# Altium footprint library BitMainTech_V1.3.PcbLib: 33 footprints (part 2 of 3)
Each footprint in its own frame and in the unit in brackets; x right, y up, seen from the top. Pads: shape width x height; smd on the part's side, far side on the other; paste and mask are expansions set on the pad; w line width, h text height; cw(c..) or ccw(c..) is an arc to the next point about the centre after c.
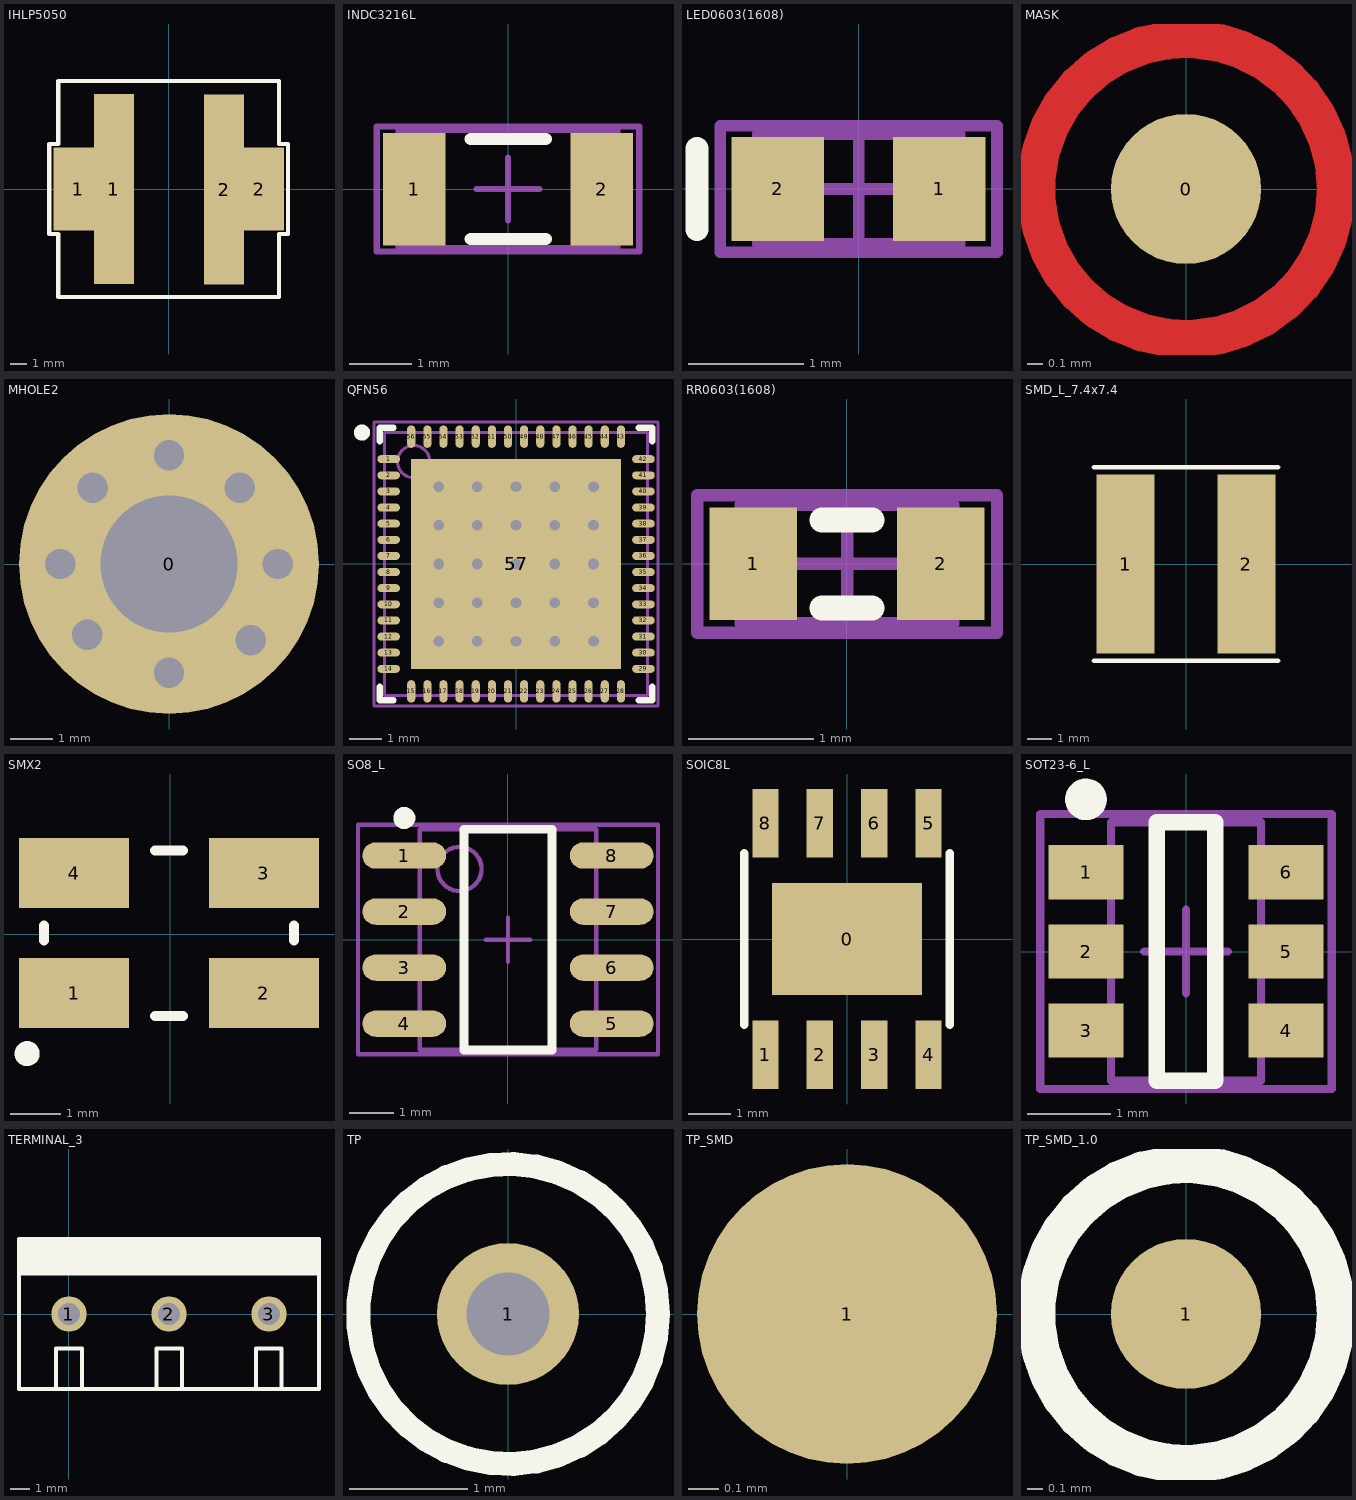
[diagram p1: the footprints below, top view; thin cyan lines are the x and y axes]

## IHLP5050 [mm]
height 18.15
pads (4):
  rect 2.945x4.95 smd: 1(-5.407,0) 2(5.407,0)
  rect 2.388x11.328 smd: 1(-3.28,0) 2(3.32,-0.03)
Top Overlay:
  lines w0.254: -7.137,-2.688 -6.6,-2.688 -6.6,-3.225 -6.6,-6.45 6.6,-6.45 6.6,-3.225 6.6,-2.688 7.137,-2.688 7.137,2.688 6.6,2.688 6.6,3.225 6.6,6.45 -6.6,6.45 -6.6,3.225 -6.6,2.688 -7.137,2.688 -7.137,-2.688
Top Paste:
  rectangle: 2.134,-5.664 4.521,5.664
  rectangle: -4.521,-5.664 -2.134,5.664
Top Solder:
  rectangle: 2.134,-5.664 4.521,5.664
  rectangle: -4.521,-5.664 -2.134,5.664
3D body: height 6.5, standoff 0, extent -6.6,-6.449 6.6,6.449

## INDC3216L [mm] "Chip Inductor, Body 3.2x1.6mm, IPC High Density"
height 1.9
pads (2):
  rect 1x1.8 smd: 1(-1.5,0) 2(1.5,0)
Top Overlay:
  lines w0.2: -0.6,-0.8 0.6,-0.8 ; -0.6,0.8 0.6,0.8
Mechanical 13:
  lines w0.1: -1.75,-0.95 1.75,-0.95 1.75,0.95 -1.75,0.95 -1.75,-0.95
Mechanical 15:
  lines w0.1: -0.5,0 0.5,0 ; 0,-0.5 0,0.5 ; -2.1,-1 2.1,-1 2.1,1 -2.1,1 -2.1,-1
3D body: height 1.9, standoff 0, extent -1.75,-0.95 1.75,0.95

## LED0603(1608) [mm] "Chip LED, Body 1.6x0.8mm, IPC High Density"
height 18.15
pads (2):
  rect 0.8x0.9 smd: 1(0.7,0) 2(-0.7,0)
Top Overlay:
  lines w0.2: -1.4,-0.35 -1.4,0.35
Mechanical 13:
  lines w0.1: -0.875,-0.475 0.875,-0.475 0.875,0.475 -0.875,0.475 -0.875,-0.475
Mechanical 15:
  lines w0.1: -0.475,0 0.475,0 ; 0,-0.475 0,0.475 ; -1.2,-0.55 1.2,-0.55 1.2,0.55 -1.2,0.55 -1.2,-0.55
3D body: height 0.85, standoff 0, extent -0.875,-0.475 0.875,0.475

## MASK [mm] "SMD MASK 1mm"
height 18.15
pads (1):
  round 1 smd: 0(0,0)
Top Layer:
  circle w0.254: c0,0 r1
Top Paste:
  circle w1.5: c0,0 r0.508
  circle w0.254: c0,0 r0.508
Top Solder:
  circle w1: c0,0 r0.762

## MHOLE2 [mm]
height 0.9
pads (1):
  round 7 hole 3.2 unplated: 0(0,0)
via 1.905,-1.778 diameter 1.27 hole 0.711
via 1.651,1.778 diameter 1.27 hole 0.711
via -1.778,1.778 diameter 1.27 hole 0.711
via -1.905,-1.651 diameter 1.27 hole 0.711
via 0,-2.54 diameter 1.27 hole 0.711
via -2.54,0 diameter 1.27 hole 0.711
via 2.54,0 diameter 1.27 hole 0.711
via 0,2.54 diameter 1.27 hole 0.711

## QFN56 [mm]
height 18.15
pads (58):
  oval 0.7x0.25 smd: 1(-3.95,3.25) 2(-3.95,2.75) 3(-3.95,2.25) 4(-3.95,1.75) 5(-3.95,1.25) 6(-3.95,0.75) 7(-3.95,0.25) 8(-3.95,-0.25) 9(-3.95,-0.75) 10(-3.95,-1.25) 11(-3.95,-1.75) 12(-3.95,-2.25) 13(-3.95,-2.75) 14(-3.95,-3.25) 29(3.95,-3.25) 30(3.95,-2.75) 31(3.95,-2.25) 32(3.95,-1.75) 33(3.95,-1.25) 34(3.95,-0.75) 35(3.95,-0.25) 36(3.95,0.25) 37(3.95,0.75) 38(3.95,1.25) 39(3.95,1.75) 40(3.95,2.25) 41(3.95,2.75) 42(3.95,3.25)
  oval 0.25x0.7 smd: 15(-3.25,-3.95) 16(-2.75,-3.95) 17(-2.25,-3.95) 18(-1.75,-3.95) 19(-1.25,-3.95) 20(-0.75,-3.95) 21(-0.25,-3.95) 22(0.25,-3.95) 23(0.75,-3.95) 24(1.25,-3.95) 25(1.75,-3.95) 26(2.25,-3.95) 27(2.75,-3.95) 28(3.25,-3.95) 43(3.25,3.95) 44(2.75,3.95) 45(2.25,3.95) 46(1.75,3.95) 47(1.25,3.95) 48(0.75,3.95) 49(0.25,3.95) 50(-0.25,3.95) 51(-0.75,3.95) 52(-1.25,3.95) 53(-1.75,3.95) 54(-2.25,3.95) 55(-2.75,3.95) 56(-3.25,3.95)
  rect 6.5x6.5 smd: 57(0,0)
  rect 6.5x6.5 smd far side: 57(0,0)
via -2.4,2.4 diameter 0.66 hole 0.33
via -1.2,2.4 diameter 0.66 hole 0.33
via 0,2.4 diameter 0.66 hole 0.33
via 1.2,2.4 diameter 0.66 hole 0.33
via 2.4,2.4 diameter 0.66 hole 0.33
via -2.4,1.2 diameter 0.66 hole 0.33
via -1.2,1.2 diameter 0.66 hole 0.33
via 0,1.2 diameter 0.66 hole 0.33
via 1.2,1.2 diameter 0.66 hole 0.33
via 2.4,1.2 diameter 0.66 hole 0.33
via -2.4,0 diameter 0.66 hole 0.33
via -1.2,0 diameter 0.66 hole 0.33
via 0,0 diameter 0.66 hole 0.33
via 1.2,0 diameter 0.66 hole 0.33
via 2.4,0 diameter 0.66 hole 0.33
via -2.4,-1.2 diameter 0.66 hole 0.33
via -1.2,-1.2 diameter 0.66 hole 0.33
via 0,-1.2 diameter 0.66 hole 0.33
via 1.2,-1.2 diameter 0.66 hole 0.33
via 2.4,-1.2 diameter 0.66 hole 0.33
via -2.4,-2.4 diameter 0.66 hole 0.33
via -1.2,-2.4 diameter 0.66 hole 0.33
via 0,-2.4 diameter 0.66 hole 0.33
via 1.2,-2.4 diameter 0.66 hole 0.33
via 2.4,-2.4 diameter 0.66 hole 0.33
Top Overlay:
  circle w0.25: c-4.775,4.075 r0.125
  lines w0.2: -4.225,-3.8 -4.225,-4.225 -3.8,-4.225 ; -4.225,3.8 -4.225,4.225 -3.8,4.225 ; 3.8,-4.225 4.225,-4.225 4.225,-3.8 ; 3.8,4.225 4.225,4.225 4.225,3.8
Mechanical 13:
  circle w0.1: c-3.175,3.175 r0.5
  lines w0.1: -4.075,-4.075 -4.075,4.075 4.075,4.075 4.075,-4.075 -4.075,-4.075
Mechanical 15:
  lines w0.1: -0.5,0 0.5,0 ; 0,-0.5 0,0.5 ; -4.4,-4.4 -4.4,4.4 4.4,4.4 4.4,-4.4 -4.4,-4.4
3D body: height 0.9, standoff 0, extent -4.075,-4.075 4.075,4.075

## RR0603(1608) [mm] "Chip Resistor, Body 1.6x0.8mm, IPC High Density"
height 0.6
pads (2):
  rect 0.7x0.9 smd: 1(-0.75,0) 2(0.75,0)
Top Overlay:
  lines w0.2: -0.2,-0.35 0.2,-0.35 ; -0.2,0.35 0.2,0.35
Mechanical 13:
  lines w0.1: -0.85,-0.475 -0.85,0.475 0.85,0.475 0.85,-0.475 -0.85,-0.475
Mechanical 15:
  lines w0.1: -0.475,0 0.475,0 ; 0,-0.475 0,0.475 ; -1.2,-0.55 -1.2,0.55 1.2,0.55 1.2,-0.55 -1.2,-0.55
3D body: height 0.6, standoff 0, extent -0.85,-0.475 0.85,0.475

## SMD_L_7.4x7.4 [mm]
height 18.15
pads (2):
  rect 2.4x7.4 smd: 1(-2.5,0) 2(2.5,0)
Top Overlay:
  lines w0.203: -3.8,-4 3.8,-4 ; -3.8,4 3.8,4

## SMX2 [mm]
height 0.9
pads (4):
  rect 2.2x1.4 smd: 1(-1.925,-1.175) 2(1.875,-1.175) 3(1.875,1.225) 4(-1.925,1.225)
Top Overlay:
  circle w0.25: c-2.862,-2.384 r0.125
  lines w0.2: -2.525,-0.125 -2.525,0.175 ; -0.304,-1.628 0.254,-1.628 ; -0.304,1.678 0.254,1.678 ; 2.475,-0.125 2.475,0.175

## SO8_L [mm] "SOIC, 8-Leads, Body 4.9x3.9mm, Pitch 1.27mm, IPC High Density"
height 1.75
pads (8):
  oval 1.9x0.6 smd: 1(-2.35,1.905) 2(-2.35,0.635) 3(-2.35,-0.635) 4(-2.35,-1.905) 5(2.35,-1.905) 6(2.35,-0.635) 7(2.35,0.635) 8(2.35,1.905)
Top Overlay:
  circle w0.25: c-2.35,2.755 r0.125
  lines w0.2: -1,-2.5 1,-2.5 1,2.5 -1,2.5 -1,-2.5
Mechanical 13:
  circle w0.1: c-1.1,1.6 r0.5
  lines w0.1: -2,-2.5 2,-2.5 2,2.5 -2,2.5 -2,-2.5
Mechanical 15:
  lines w0.1: -0.5,0 0.5,0 ; 0,-0.5 0,0.5 ; -3.4,-2.6 3.4,-2.6 3.4,2.6 -3.4,2.6 -3.4,-2.6
3D body: height 1.75, standoff 0, extent -2,-2.5 2,2.5

## SOIC8L [mm]
pads (9):
  rect 3.51x2.62 smd: 0(0,0)
  rect 0.61x1.6 smd: 1(-1.905,-2.7) 2(-0.635,-2.7) 3(0.635,-2.7) 4(1.905,-2.7) 5(1.905,2.7) 6(0.635,2.7) 7(-0.635,2.7) 8(-1.905,2.7)
Top Overlay:
  lines w0.203: -2.4,-2 -2.4,2 ; 2.4,-2 2.4,2

## SOT23-6_L [mm] "SOT23, 6-Leads, Body 2.9x1.6mm, Pitch 0.95mm, Lead Span 2.7mm, IPC High Density"
height 1.45
pads (6):
  rect 0.9x0.65 smd: 1(-1.2,0.95) 2(-1.2,0) 3(-1.2,-0.95) 4(1.2,-0.95) 5(1.2,0) 6(1.2,0.95)
Top Overlay:
  circle w0.25: c-1.2,1.825 r0.125
  lines w0.2: -0.35,-1.55 -0.35,1.55 0.35,1.55 0.35,-1.55 -0.35,-1.55
Mechanical 13:
  lines w0.1: -0.9,-1.55 0.9,-1.55 0.9,1.55 -0.9,1.55 -0.9,-1.55
Mechanical 15:
  lines w0.1: -0.5,0 0.5,0 ; 0,-0.5 0,0.5 ; -1.75,-1.65 1.75,-1.65 1.75,1.65 -1.75,1.65 -1.75,-1.65
3D body: height 1.45, standoff 0, extent -0.9,-1.55 0.9,1.55

## TERMINAL_3 [mm]
height 9.8
pads (3):
  round 1.8 hole 1.1: 1(0,0) 2(5.08,0) 3(10.16,0)
Top Overlay:
  rectangle: -2.54,1.95 12.7,3.81
  lines w0.203: -0.65,-3.81 -0.65,-1.75 0.65,-1.75 0.65,-3.81 ; 4.45,-3.81 4.45,-1.75 5.75,-1.75 5.75,-3.81 ; 9.5,-3.81 9.5,-1.75 10.8,-1.75 10.8,-3.81 ; -2.54,-3.81 -2.54,3.81 12.7,3.81 12.7,-3.81 -2.54,-3.81

## TP [mm]
height 18.15
pads (1):
  round 1.2 hole 0.7: 1(0,0)
Top Overlay:
  circle w0.203: c0,0 r1.27

## TP_SMD [mm]
height 18.15
pads (1):
  round 1 smd: 1(0,0)

## TP_SMD_1.0 [mm]
pads (1):
  round 1 smd: 1(0,0)
Top Overlay:
  circle w0.254: c0,0 r1